# Altium integrated library NORDIC_Microcontrollers.IntLib: 2 symbols
Pins are listed as number, name and electrical type; pins without a type are passive.

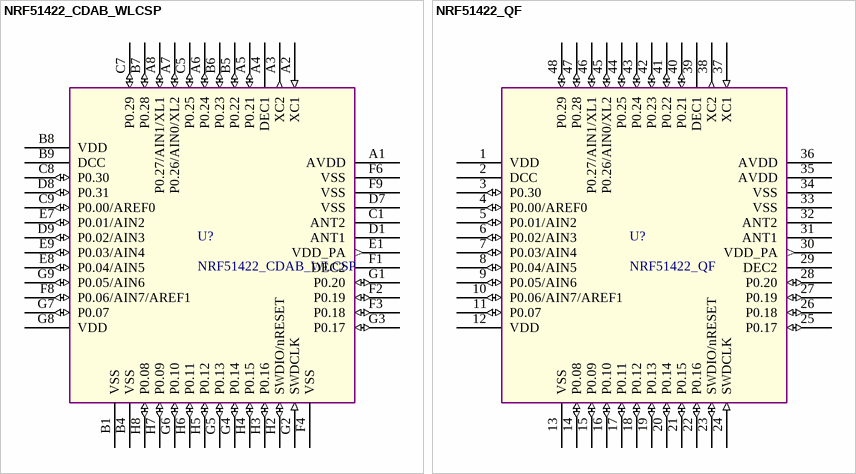
[diagram p0: symbols NRF51422_CDAB_WLCSP to NRF51422_QF]

## NRF51422_CDAB_WLCSP
designator U?
ARM® Cortex™-M0 32 bit processor. Multiprotocol ANT™/Bluetooth® low energy System on Chip
footprint BGA56C40P900X350X333X50 (IPC-7351C CDAB WLCSP)
pins: A1 AVDD (power) "Analog power supply (Radio).", A2 XC1 (in) "Connection for 16/32 MHz crystal or external 16 MHz clock  reference.", A3 XC2 (out) "Connection for 16/32 MHz crystal.", A4 DEC1 "Power supply decoupling.", A5 P0.21 (io) "General purpose I/O pin.", A6 P0.24 (io) "General purpose I/O pin.", A7 P0.26/AIN0/XL2 (io) "General purpose I/O pin.  ADC/LPCOMP input 0.  Connection for 32.768 kHz crystal.", A8 P0.27/AIN1/XL1 (io) "General purpose I/O pin.  ADC/LPCOMP input 1.  Connection for 32.768 kHz crystal or external 32.768 kHz  clock reference.", B1 VSS (power) "Ground (0 V).", B4 VSS (power) "Ground (0 V)", B5 P0.22 (io) "General purpose I/O pin.", B6 P0.23 (io) "General purpose I/O pin.", B7 P0.28 (io) "General purpose I/O pin.", B8 VDD (power) "Power supply.", B9 DCC (power) "DC/DC output voltage to external LC filter", C1 ANT2 "Differential antenna connection (TX and RX).", C5 P0.25 (io) "General purpose I/O pin.", C7 P0.29 (io) "General purpose I/O pin.", C8 P0.30 (io) "General purpose I/O pin.", C9 P0.00/AREF0 (io) "General purpose I/O pin.  ADC Reference voltage", D1 ANT1 "Differential antenna connection (TX and RX).", D7 VSS (power) "Ground (0 V).", D8 P0.31 (io) "General purpose I/O pin.", D9 P0.02/AIN3 (io) "General purpose I/O pin.  ADC input 3", E1 VDD_PA (out) "Power supply output (+1.6 V) for on-chip RF power amp", E2 NC hidden "No Connection. Must be soldered to PCB.", E3 NC hidden "No Connection. Must be soldered to PCB.", E7 P0.01/AIN2 (io) "General purpose I/O pin.  ADC input 2.", E8 P0.04/AIN5 (io) "General purpose I/O pin.  ADC input 5.", E9 P0.03/AIN4 (io) "General purpose I/O pin.  ADC input 4.", F1 DEC2 "Power supply decoupling.", F2 P0.19 (io) "General purpose I/O pin.", F3 P0.18 (io) "General purpose I/O pin.", F4 VSS (power) "Ground (0 V).", F5 NC hidden "No Connection. Must be soldered to PCB.", F6 VSS (power) "Ground (0 V).", F8 P0.06/AIN7/AREF1 (io) "General purpose I/O pin. ADC input 7. ADC Reference voltage", F9 VSS (power) "Ground (0 V).", G1 P0.20 (io) "General purpose I/O pin.", G2 SWDCLK (in) "Hardware debug and flash programming I/O.", G3 P0.17 (io) "General purpose I/O pin.", G4 P0.14 (io) "General purpose I/O pin.", G5 P0.13 (io) "General purpose I/O pin.", G6 P0.10 (io) "General purpose I/O pin.", G7 P0.07 (io), G8 VDD (power) "Power supply.", G9 P0.05/AIN6 (io) "General purpose I/O pin.  ADC input 6.", H2 SWDIO/nRESET (io) "System reset (active low). Hardware debug and flash  programming I/O.", H3 P0.16 (io) "General purpose I/O pin.", H4 P0.15 (io) "General purpose I/O pin.", H5 P0.12 (io) "General purpose I/O pin.", H6 P0.11 (io) "General purpose I/O pin.", H7 P0.09 (io) "General purpose I/O pin.", H8 P0.08 (io) "General purpose I/O pin."

## NRF51422_QF
designator U?
ARM® Cortex™-M0 32 bit processor. Multiprotocol ANT™/Bluetooth® low energy System on Chip; ComponentLink2Description: Datasheet; ComponentLink2URL: http://infocenter.nordicsemi.com/pdf/nRF51422_PS_v3.1.pdf; Supplier 1: Mouser; Supplier Part Number 1: 949-NRF51422-QFAA-R7
footprint QFN40P600X600X85-48_T460X460 (IPC-7351C QFN48)
pins: 1 VDD (power) "Power supply.", 2 DCC (power) "DC/DC output voltage to external LC filter", 3 P0.30 (io) "General purpose I/O pin.", 4 P0.00/AREF0 (io) "General purpose I/O pin.  ADC/LPCOMP reference input 0.", 5 P0.01/AIN2 (io) "General purpose I/O pin.  ADC/LPCOMP input 2.", 6 P0.02/AIN3 (io) "General purpose I/O pin.  ADC/LPCOMP input 3.", 7 P0.03/AIN4 (io) "General purpose I/O pin.  ADC/LPCOMP input 4.", 8 P0.04/AIN5 (io) "General purpose I/O pin.  ADC/LPCOMP input 5.", 9 P0.05/AIN6 (io) "General purpose I/O pin.  ADC/LPCOMP input 6.", 10 P0.06/AIN7/AREF1 (io) "General purpose I/O pin.  ADC/LPCOMP input 7.  ADC/LPCOMP reference input 1.", 11 P0.07 (io) "General purpose I/O pin.", 12 VDD (power) "Power supply.", 13 VSS (power) "Ground (0 V)", 14 P0.08 (io) "General purpose I/O pin.", 15 P0.09 (io) "General purpose I/O pin.", 16 P0.10 (io) "General purpose I/O pin.", 17 P0.11 (io) "General purpose I/O pin.", 18 P0.12 (io) "General purpose I/O pin.", 19 P0.13 (io) "General purpose I/O pin.", 20 P0.14 (io) "General purpose I/O pin.", 21 P0.15 (io) "General purpose I/O pin.", 22 P0.16 (io) "General purpose I/O pin.", 23 SWDIO/nRESET (io) "System reset (active low). Hardware debug and flash  programming I/O.", 24 SWDCLK (in) "Hardware debug and flash programming I/O.", 25 P0.17 (io) "General purpose I/O pin.", 26 P0.18 (io) "General purpose I/O pin.", 27 P0.19 (io) "General purpose I/O pin.", 28 P0.20 (io) "General purpose I/O pin.", 29 DEC2 "Power supply decoupling.", 30 VDD_PA (out) "Power supply output (+1.6 V) for on-chip RF power amp", 31 ANT1 "Differential antenna connection (TX and RX).", 32 ANT2 "Differential antenna connection (TX and RX).", 33 VSS (power) "Ground (0 V).", 34 VSS (power) "Ground (0 V).", 35 AVDD (power) "Analog power supply (Radio).", 36 AVDD (power) "Analog power supply (Radio).", 37 XC1 (in) "Connection for 16/32 MHz crystal or external 16 MHz clock  reference.", 38 XC2 (out) "Connection for 16/32 MHz crystal.", 39 DEC1 "Power supply decoupling.", 40 P0.21 (io) "General purpose I/O pin.", 41 P0.22 (io) "General purpose I/O pin.", 42 P0.23 (io) "General purpose I/O pin.", 43 P0.24 (io) "General purpose I/O pin.", 44 P0.25 (io) "General purpose I/O pin.", 45 P0.26/AIN0/XL2 (io) "General purpose I/O pin.  ADC/LPCOMP input 0.  Connection for 32.768 kHz crystal.", 46 P0.27/AIN1/XL1 (io) "General purpose I/O pin.  ADC/LPCOMP input 1.  Connection for 32.768 kHz crystal or external 32.768 kHz  clock reference.", 47 P0.28 (io) "General purpose I/O pin.", 48 P0.29 (io) "General purpose I/O pin.", PAD hidden